# Altium footprint library 3299X-1-502LF.PcbLib: 1 footprints
Each footprint in its own frame and in the unit in brackets; x right, y up, seen from the top. Pads: shape width x height; smd on the part's side, far side on the other; paste and mask are expansions set on the pad; w line width, h text height; cw(c..) or ccw(c..) is an arc to the next point about the centre after c.
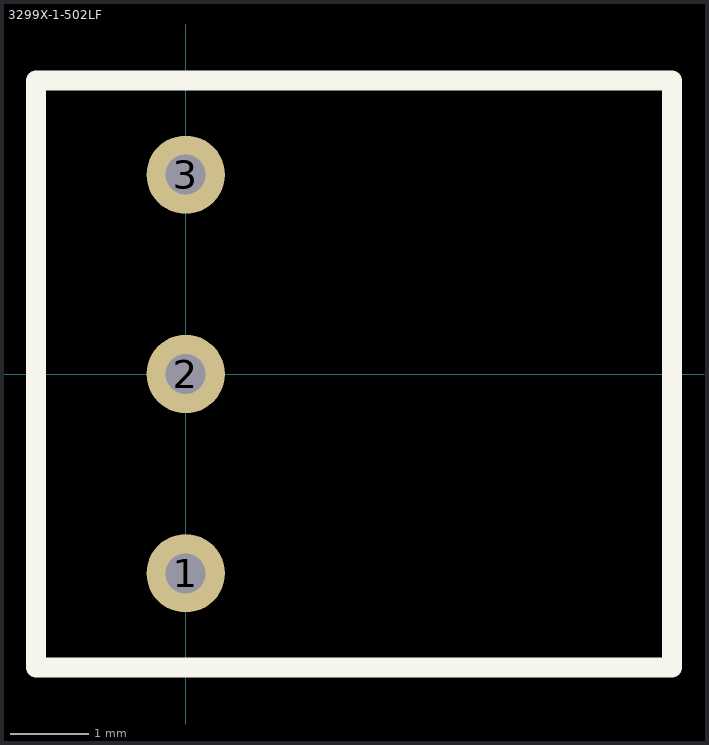
[diagram p0: the footprint, top view; thin cyan lines are the x and y axes]

## 3299X-1-502LF [mm]
pads (3):
  round 1 hole 0.51: 1(0,-2.54) 2(0,0) 3(0,2.54)
Top Overlay:
  lines w0.254: -1.91,-3.74 -1.91,3.74 6.2,3.74 6.2,-3.74 -1.91,-3.74